# Altium schematic symbol library main.SCHLIB: 5 symbols
Pins are listed as number, name and electrical type; pins without a type are passive.

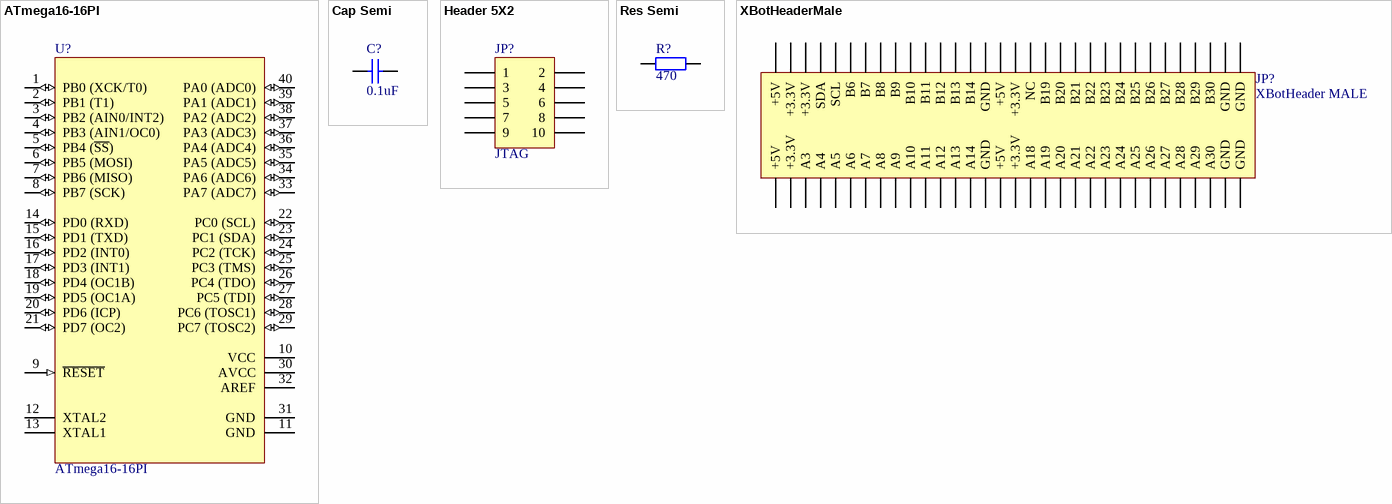
[diagram p0: symbols ATmega16-16PI to XBotHeaderMale]

## ATmega16-16PI
designator U?
8-Bit AVR Microcontroller with 16K Bytes of In-System Programmable Flash Memory; Published: 17-Sep-2003; LatestRevisionDate: 4-Mar-2005; LatestRevisionNote: Stylized 3D Model Added.; DatasheetDocument: 2466E-AVR-10/02; PackageDocument: Dec-1999; PackageReference: 40P6; Publisher: Altium Limited; ComponentLink1Description: Manufacturer Link; ComponentLink1URL: http://www.atmel.com; ComponentLink2Description: Datasheet; ComponentLink2URL: http://www.atmel.com/dyn/resources/prod_documents/doc2466.pdf
footprint 40P6 (DIP; 40 Leads; Row Spacing 15.24 mm; Pitch 2.54 mm)
3D model 40P6 (DIP; 40 Leads; Row Spacing 15.24 mm; Pitch 2.54 mm)
pins: 1 PB0 (XCK/T0) (io), 2 PB1 (T1) (io), 3 PB2 (AIN0/INT2) (io), 4 PB3 (AIN1/OC0) (io), 5 PB4 (~{SS}) (io), 6 PB5 (MOSI) (io), 7 PB6 (MISO) (io), 8 PB7 (SCK) (io), 9 ~{RESET} (in), 10 VCC (power), 11 GND (power), 12 XTAL2, 13 XTAL1, 14 PD0 (RXD) (io), 15 PD1 (TXD) (io), 16 PD2 (INT0) (io), 17 PD3 (INT1) (io), 18 PD4 (OC1B) (io), 19 PD5 (OC1A) (io), 20 PD6 (ICP) (io), 21 PD7 (OC2) (io), 22 PC0 (SCL) (io), 23 PC1 (SDA) (io), 24 PC2 (TCK) (io), 25 PC3 (TMS) (io), 26 PC4 (TDO) (io), 27 PC5 (TDI) (io), 28 PC6 (TOSC1) (io), 29 PC7 (TOSC2) (io), 30 AVCC (power), 31 GND (power), 32 AREF, 33 PA7 (ADC7) (io), 34 PA6 (ADC6) (io), 35 PA5 (ADC5) (io), 36 PA4 (ADC4) (io), 37 PA3 (ADC3) (io), 38 PA2 (ADC2) (io), 39 PA1 (ADC1) (io), 40 PA0 (ADC0) (io)

## Cap Semi
designator C?, comment value 0.1uF  (hidden comment: Cap Semi_16pF)
Capacitor (Semiconductor SIM Model); Published: 8-Jun-2000; Revision: July-2002: Re-released for DXP Platform.; Publisher: Altium Limited
footprint CC3216-1206 (Chip Capacitor; Body 3.2 x 1.6 mm (LxW typ))
simulation model CAP (Semiconductor Capacitor)
signal-integrity model Cap Semi
footprint CC1310-0504
footprint CC1608-0603
footprint CR2012-0805 (Chip Resistor; Body 2.0 x 1.3 mm (LxW typ))
footprint CC3225-1210
pins: 1, 2

## Header 5X2
designator JP?, comment JTAG
Header, 5-Pin, Dual row; LatestRevisionDate: 17-Jul-2002; LatestRevisionNote: Re-released for DXP Platform.; Publisher: Altium Limited
footprint HDR2X5 (Connector; Header; 5x2 Position)
signal-integrity model Connector
pins: 1, 2, 3, 4, 5, 6, 7, 8, 9, 10

## Res Semi
designator R?  value 470  (hidden comment: Res Semi)
Semiconductor Resistor; Published: 8-Jun-2000; Revision: July-2002: Re-released for DXP Platform.; Publisher: Altium Limited
footprint AXIAL-0.5 (Semiconductor Resistor; 2 Leads)
simulation model RES (Semiconductor Resistor)
signal-integrity model Res Semi
footprint CR2012-0805 (Chip Resistor; Body 2.0 x 1.3 mm (LxW typ))
footprint CR1608-0603
footprint CR2012-0805
footprint CR3216-1206
pins: 1, 2
1 alternate drawing of the same symbol

## XBotHeaderMale
designator JP?, comment XBotHeader MALE
Header, 32-Pin, Dual row; Manufacturer: Generic Components; Class I: Connector; ELFA: 111; Revision: July-2002: Re-released for DXP Platform.; Publisher: Altium Limited
footprint DIN 41 612 - MALE Type B (Backplane connector angled pins)
signal-integrity model Connector
pins: A1 +5V, A2 +3.3V, A3, A4, A5, A6, A7, A8, A9, A10, A11, A12, A13, A14, A15 GND, A16 +5V, A17 +3.3V, A18, A19, A20, A21, A22, A23, A24, A25, A26, A27, A28, A29, A30, A31 GND, A32 GND, B1 +5V, B2 +3.3V, B3 +3.3V, B4 SDA, B5 SCL, B6, B7, B8, B9, B10, B11, B12, B13, B14, B15 GND, B16 +5V, B17 +3.3V, B18 NC, B19, B20, B21, B22, B23, B24, B25, B26, B27, B28, B29, B30, B31 GND, B32 GND